# Altium schematic symbol library SCH - MCU - ATMEGA - MICROCHIP AVR64DA28 SOIC28.SchLib: 1 symbol
Pins are listed as number, name and electrical type; pins without a type are passive.

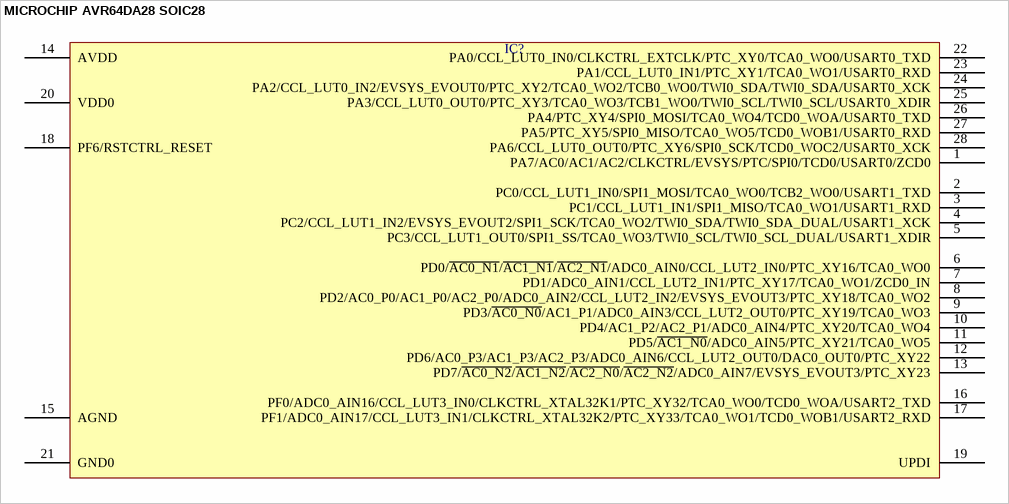
[diagram p0: symbol MICROCHIP AVR64DA28 SOIC28]

## MICROCHIP AVR64DA28 SOIC28
designator IC?  (value not drawn)
pins: 1 PA7/AC0/AC1/AC2/CLKCTRL/EVSYS/PTC/SPI0/TCD0/USART0/ZCD0, 2 PC0/CCL_LUT1_IN0/SPI1_MOSI/TCA0_WO0/TCB2_WO0/USART1_TXD, 3 PC1/CCL_LUT1_IN1/SPI1_MISO/TCA0_WO1/USART1_RXD, 4 PC2/CCL_LUT1_IN2/EVSYS_EVOUT2/SPI1_SCK/TCA0_WO2/TWI0_SDA/TWI0_SDA_DUAL/USART1_XCK, 5 PC3/CCL_LUT1_OUT0/SPI1_SS/TCA0_WO3/TWI0_SCL/TWI0_SCL_DUAL/USART1_XDIR, 6 PD0/~{AC0_N1}/~{AC1_N1}/~{AC2_N1}/ADC0_AIN0/CCL_LUT2_IN0/PTC_XY16/TCA0_WO0, 7 PD1/ADC0_AIN1/CCL_LUT2_IN1/PTC_XY17/TCA0_WO1/ZCD0_IN, 8 PD2/AC0_P0/AC1_P0/AC2_P0/ADC0_AIN2/CCL_LUT2_IN2/EVSYS_EVOUT3/PTC_XY18/TCA0_WO2, 9 PD3/~{AC0_N0}/AC1_P1/ADC0_AIN3/CCL_LUT2_OUT0/PTC_XY19/TCA0_WO3, 10 PD4/AC1_P2/AC2_P1/ADC0_AIN4/PTC_XY20/TCA0_WO4, 11 PD5/~{AC1_N0}/ADC0_AIN5/PTC_XY21/TCA0_WO5, 12 PD6/AC0_P3/AC1_P3/AC2_P3/ADC0_AIN6/CCL_LUT2_OUT0/DAC0_OUT0/PTC_XY22, 13 PD7/~{AC0_N2}/~{AC1_N2}/~{AC2_N0}/~{AC2_N2}/ADC0_AIN7/EVSYS_EVOUT3/PTC_XY23, 14 AVDD, 15 AGND, 16 PF0/ADC0_AIN16/CCL_LUT3_IN0/CLKCTRL_XTAL32K1/PTC_XY32/TCA0_WO0/TCD0_WOA/USART2_TXD, 17 PF1/ADC0_AIN17/CCL_LUT3_IN1/CLKCTRL_XTAL32K2/PTC_XY33/TCA0_WO1/TCD0_WOB1/USART2_RXD, 18 PF6/RSTCTRL_RESET, 19 UPDI, 20 VDD0, 21 GND0, 22 PA0/CCL_LUT0_IN0/CLKCTRL_EXTCLK/PTC_XY0/TCA0_WO0/USART0_TXD, 23 PA1/CCL_LUT0_IN1/PTC_XY1/TCA0_WO1/USART0_RXD, 24 PA2/CCL_LUT0_IN2/EVSYS_EVOUT0/PTC_XY2/TCA0_WO2/TCB0_WO0/TWI0_SDA/TWI0_SDA/USART0_XCK, 25 PA3/CCL_LUT0_OUT0/PTC_XY3/TCA0_WO3/TCB1_WO0/TWI0_SCL/TWI0_SCL/USART0_XDIR, 26 PA4/PTC_XY4/SPI0_MOSI/TCA0_WO4/TCD0_WOA/USART0_TXD, 27 PA5/PTC_XY5/SPI0_MISO/TCA0_WO5/TCD0_WOB1/USART0_RXD, 28 PA6/CCL_LUT0_OUT0/PTC_XY6/SPI0_SCK/TCD0_WOC2/USART0_XCK